# Altium schematic symbol library kmilo17pet-NSC_LDO.SchLib: 2675 symbols (part 65 of 65)
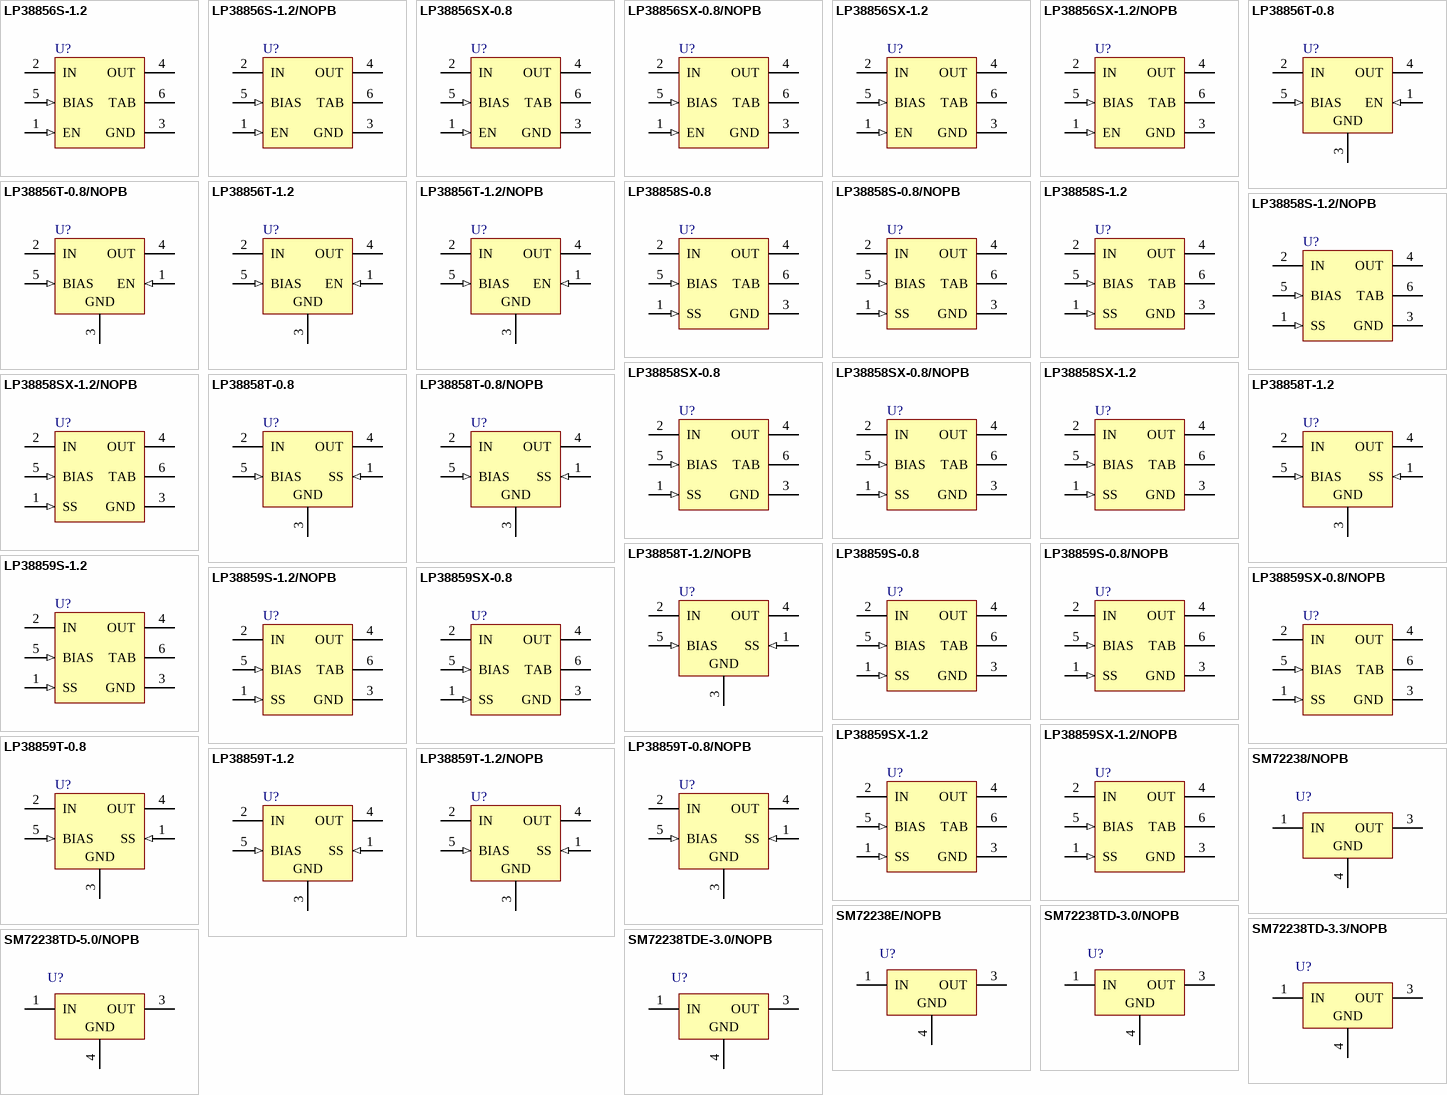
[diagram p131: symbols LP38856S-1.2 to SM72238TDE-3.0/NOPB]

## LP38859SX-0.8/NOPB
designator U?
3A Fast-Response High-Accuracy LDO Linear Regulator with Soft-Start, 5-pin TO-263, Pb-Free; PartNumber: LP38859SX-0.8/NOPB; Manufacturer: National Semiconductor; PackageTopMarking: NSUZXYTTE#*LP38859S*-0.8; PowerWise: Y; CompType: LDO IC; DatasheetVersion: Nov-2006; PackageVersion: revD, Apr-2005; PackageReference: TS5B; PackageDescription: TO-263, Molded, .400 x .390 x .180in, 5 Lead, .067in Pitch, Surface Mount; RoHS: Y; PinCount: 5; High-Reliability: Y; Code_JEDEC: MO-169-AB; ComponentLink1Description: Manufacturer URL; ComponentLink1URL: http://www.national.com/; ComponentLink2Description: LP38859 Datasheet; ComponentLink2URL: http://www.national.com/ds/LP/LP38859.pdf; ComponentLink3Description: LP38859 Web Page; ComponentLink3URL: http://www.national.com/pf/LP/LP38859.html; ComponentLink4Description: TS5B Package Page; ComponentLink4URL: http://www.national.com/packaging/folders/ts5b.html
footprint TS5B_N (D2-PAK, 6-Leads, Body 8.6x10.2mm, Pitch 1.7mm, Lead Span 14.1mm, IPC Medium Density)
footprint TS5B_L (D2-PAK, 6-Leads, Body 8.6x10.2mm, Pitch 1.7mm, Lead Span 14.1mm, IPC High Density)
footprint TS5B_M (D2-PAK, 6-Leads, Body 8.6x10.2mm, Pitch 1.7mm, Lead Span 14.1mm, IPC Low Density)
pins: 1 SS (in), 2 IN (power), 3 GND (power), 4 OUT (power), 5 BIAS (in), 6 TAB (power)

## LP38859SX-1.2
designator U?
3A Fast-Response High-Accuracy LDO Linear Regulator with Soft-Start, 5-pin TO-263; PartNumber: LP38859SX-1.2; Manufacturer: National Semiconductor; PackageTopMarking: NSUZXYTTE#*LP38859S*-1.2; PowerWise: Y; CompType: LDO IC; DatasheetVersion: Nov-2006; PackageVersion: revD, Apr-2005; PackageReference: TS5B; PackageDescription: TO-263, Molded, .400 x .390 x .180in, 5 Lead, .067in Pitch, Surface Mount; RoHS: N; PinCount: 5; High-Reliability: Y; Code_JEDEC: MO-169-AB; ComponentLink1Description: Manufacturer URL; ComponentLink1URL: http://www.national.com/; ComponentLink2Description: LP38859 Datasheet; ComponentLink2URL: http://www.national.com/ds/LP/LP38859.pdf; ComponentLink3Description: LP38859 Web Page; ComponentLink3URL: http://www.national.com/pf/LP/LP38859.html; ComponentLink4Description: TS5B Package Page; ComponentLink4URL: http://www.national.com/packaging/folders/ts5b.html
footprint TS5B_N (D2-PAK, 6-Leads, Body 8.6x10.2mm, Pitch 1.7mm, Lead Span 14.1mm, IPC Medium Density)
footprint TS5B_L (D2-PAK, 6-Leads, Body 8.6x10.2mm, Pitch 1.7mm, Lead Span 14.1mm, IPC High Density)
footprint TS5B_M (D2-PAK, 6-Leads, Body 8.6x10.2mm, Pitch 1.7mm, Lead Span 14.1mm, IPC Low Density)
pins: 1 SS (in), 2 IN (power), 3 GND (power), 4 OUT (power), 5 BIAS (in), 6 TAB (power)

## LP38859SX-1.2/NOPB
designator U?
3A Fast-Response High-Accuracy LDO Linear Regulator with Soft-Start, 5-pin TO-263, Pb-Free; PartNumber: LP38859SX-1.2/NOPB; Manufacturer: National Semiconductor; PackageTopMarking: NSUZXYTTE#*LP38859S*-1.2; PowerWise: Y; CompType: LDO IC; DatasheetVersion: Nov-2006; PackageVersion: revD, Apr-2005; PackageReference: TS5B; PackageDescription: TO-263, Molded, .400 x .390 x .180in, 5 Lead, .067in Pitch, Surface Mount; RoHS: Y; PinCount: 5; High-Reliability: Y; Code_JEDEC: MO-169-AB; ComponentLink1Description: Manufacturer URL; ComponentLink1URL: http://www.national.com/; ComponentLink2Description: LP38859 Datasheet; ComponentLink2URL: http://www.national.com/ds/LP/LP38859.pdf; ComponentLink3Description: LP38859 Web Page; ComponentLink3URL: http://www.national.com/pf/LP/LP38859.html; ComponentLink4Description: TS5B Package Page; ComponentLink4URL: http://www.national.com/packaging/folders/ts5b.html
footprint TS5B_N (D2-PAK, 6-Leads, Body 8.6x10.2mm, Pitch 1.7mm, Lead Span 14.1mm, IPC Medium Density)
footprint TS5B_L (D2-PAK, 6-Leads, Body 8.6x10.2mm, Pitch 1.7mm, Lead Span 14.1mm, IPC High Density)
footprint TS5B_M (D2-PAK, 6-Leads, Body 8.6x10.2mm, Pitch 1.7mm, Lead Span 14.1mm, IPC Low Density)
pins: 1 SS (in), 2 IN (power), 3 GND (power), 4 OUT (power), 5 BIAS (in), 6 TAB (power)

## LP38859T-0.8
designator U?
3A Fast-Response High-Accuracy LDO Linear Regulator with Soft-Start, 5-pin TO-220; PartNumber: LP38859T-0.8; Manufacturer: National Semiconductor; PackageTopMarking: NSUZXYTTE#*LP38859T*-0.8; PowerWise: Y; CompType: LDO IC; DatasheetVersion: Nov-2006; PackageVersion: revA, Oct-1989; PackageReference: T05D; PackageDescription: TO-220, Molded, Stagger Bend, 5 Lead; RoHS: N; PinCount: 5; High-Reliability: Y; ComponentLink1Description: Manufacturer URL; ComponentLink1URL: http://www.national.com/; ComponentLink2Description: LP38859 Datasheet; ComponentLink2URL: http://www.national.com/ds/LP/LP38859.pdf; ComponentLink3Description: LP38859 Web Page; ComponentLink3URL: http://www.national.com/pf/LP/LP38859.html; ComponentLink4Description: T05D Package Page; ComponentLink4URL: http://www.national.com/packaging/folders/t05d.html
footprint T05D (TO, Thru-Hole, Vertical, Heatsink Mounted; 5 Bent Staggered Leads; Body 10.3x8.6x4.6mm, Pitch 1.7 mm)
pins: 1 SS (in), 2 IN (power), 3 GND (power), 4 OUT (power), 5 BIAS (in)

## LP38859T-0.8/NOPB
designator U?
3A Fast-Response High-Accuracy LDO Linear Regulator with Soft-Start, 5-pin TO-220, Pb-Free; PartNumber: LP38859T-0.8/NOPB; Manufacturer: National Semiconductor; PackageTopMarking: NSUZXYTTE#*LP38859T*-0.8; PowerWise: Y; CompType: LDO IC; DatasheetVersion: Nov-2006; PackageVersion: revA, Oct-1989; PackageReference: T05D; PackageDescription: TO-220, Molded, Stagger Bend, 5 Lead; RoHS: Y; PinCount: 5; High-Reliability: Y; ComponentLink1Description: Manufacturer URL; ComponentLink1URL: http://www.national.com/; ComponentLink2Description: LP38859 Datasheet; ComponentLink2URL: http://www.national.com/ds/LP/LP38859.pdf; ComponentLink3Description: LP38859 Web Page; ComponentLink3URL: http://www.national.com/pf/LP/LP38859.html; ComponentLink4Description: T05D Package Page; ComponentLink4URL: http://www.national.com/packaging/folders/t05d.html
footprint T05D (TO, Thru-Hole, Vertical, Heatsink Mounted; 5 Bent Staggered Leads; Body 10.3x8.6x4.6mm, Pitch 1.7 mm)
pins: 1 SS (in), 2 IN (power), 3 GND (power), 4 OUT (power), 5 BIAS (in)

## LP38859T-1.2
designator U?
3A Fast-Response High-Accuracy LDO Linear Regulator with Soft-Start, 5-pin TO-220; PartNumber: LP38859T-1.2; Manufacturer: National Semiconductor; PackageTopMarking: NSUZXYTTE#*LP38859T*-1.2; PowerWise: Y; CompType: LDO IC; DatasheetVersion: Nov-2006; PackageVersion: revA, Oct-1989; PackageReference: T05D; PackageDescription: TO-220, Molded, Stagger Bend, 5 Lead; RoHS: N; PinCount: 5; High-Reliability: Y; ComponentLink1Description: Manufacturer URL; ComponentLink1URL: http://www.national.com/; ComponentLink2Description: LP38859 Datasheet; ComponentLink2URL: http://www.national.com/ds/LP/LP38859.pdf; ComponentLink3Description: LP38859 Web Page; ComponentLink3URL: http://www.national.com/pf/LP/LP38859.html; ComponentLink4Description: T05D Package Page; ComponentLink4URL: http://www.national.com/packaging/folders/t05d.html
footprint T05D (TO, Thru-Hole, Vertical, Heatsink Mounted; 5 Bent Staggered Leads; Body 10.3x8.6x4.6mm, Pitch 1.7 mm)
pins: 1 SS (in), 2 IN (power), 3 GND (power), 4 OUT (power), 5 BIAS (in)

## LP38859T-1.2/NOPB
designator U?
3A Fast-Response High-Accuracy LDO Linear Regulator with Soft-Start, 5-pin TO-220, Pb-Free; PartNumber: LP38859T-1.2/NOPB; Manufacturer: National Semiconductor; PackageTopMarking: NSUZXYTTE#*LP38859T*-1.2; PowerWise: Y; CompType: LDO IC; DatasheetVersion: Nov-2006; PackageVersion: revA, Oct-1989; PackageReference: T05D; PackageDescription: TO-220, Molded, Stagger Bend, 5 Lead; RoHS: Y; PinCount: 5; High-Reliability: Y; ComponentLink1Description: Manufacturer URL; ComponentLink1URL: http://www.national.com/; ComponentLink2Description: LP38859 Datasheet; ComponentLink2URL: http://www.national.com/ds/LP/LP38859.pdf; ComponentLink3Description: LP38859 Web Page; ComponentLink3URL: http://www.national.com/pf/LP/LP38859.html; ComponentLink4Description: T05D Package Page; ComponentLink4URL: http://www.national.com/packaging/folders/t05d.html
footprint T05D (TO, Thru-Hole, Vertical, Heatsink Mounted; 5 Bent Staggered Leads; Body 10.3x8.6x4.6mm, Pitch 1.7 mm)
pins: 1 SS (in), 2 IN (power), 3 GND (power), 4 OUT (power), 5 BIAS (in)

## SM72238/NOPB
designator U?
SolarMagic 5V Micropower Voltage Regulator, 3-pin TO-252, 2500 Reel, Pb-Free; PartNumber: SM72238/NOPB; Manufacturer: National Semiconductor; PackageTopMarking: NSUZXYTT*S72238; PowerWise: N; CompType: LDO IC; High-Reliability: Y; DatasheetVersion: May-2011; PackageVersion: revD, Feb-2009; PackageReference: TD03B; PackageDescription: TO252, Molded, Jedec, 6.8 x 6.10 x 2.30mm Body, 3 Lead, 2.28mm Pitch, Surface Mount; RoHS: Y; PinCount: 3; Code_JEDEC: TO-252-AA; ComponentLink1Description: Manufacturer URL; ComponentLink1URL: http://www.national.com/; ComponentLink2Description: SM72238 Datasheet; ComponentLink2URL: http://www.national.com/ds/SM/SM72238.pdf; ComponentLink3Description: SM72238 Web Page; ComponentLink3URL: http://www.national.com/pf/SM/SM72238.html; ComponentLink4Description: TD03B Package Page; ComponentLink4URL: http://www.national.com/packaging/folders/td03b.html
footprint TD03B_N (D-PAK, 4-Leads, Body 6.1x6.6mm, Pitch 2.29mm, Lead Span 9.7mm, IPC Medium Density)
footprint TD03B_L (D-PAK, 4-Leads, Body 6.1x6.6mm, Pitch 2.29mm, Lead Span 9.7mm, IPC High Density)
footprint TD03B_M (D-PAK, 4-Leads, Body 6.1x6.6mm, Pitch 2.29mm, Lead Span 9.7mm, IPC Low Density)
pins: 1 IN (power), 3 OUT (power), 4 GND (power)

## SM72238E/NOPB
designator U?
SolarMagic 5V Micropower Voltage Regulator, 3-pin TO-252, 250 Reel, Pb-Free; PartNumber: SM72238E/NOPB; Manufacturer: National Semiconductor; PackageTopMarking: NSUZXYTT*S72238; PowerWise: N; CompType: LDO IC; High-Reliability: Y; DatasheetVersion: May-2011; PackageVersion: revD, Feb-2009; PackageReference: TD03B; PackageDescription: TO252, Molded, Jedec, 6.8 x 6.10 x 2.30mm Body, 3 Lead, 2.28mm Pitch, Surface Mount; RoHS: Y; PinCount: 3; Code_JEDEC: TO-252-AA; ComponentLink1Description: Manufacturer URL; ComponentLink1URL: http://www.national.com/; ComponentLink2Description: SM72238 Datasheet; ComponentLink2URL: http://www.national.com/ds/SM/SM72238.pdf; ComponentLink3Description: SM72238 Web Page; ComponentLink3URL: http://www.national.com/pf/SM/SM72238.html; ComponentLink4Description: TD03B Package Page; ComponentLink4URL: http://www.national.com/packaging/folders/td03b.html
footprint TD03B_N (D-PAK, 4-Leads, Body 6.1x6.6mm, Pitch 2.29mm, Lead Span 9.7mm, IPC Medium Density)
footprint TD03B_L (D-PAK, 4-Leads, Body 6.1x6.6mm, Pitch 2.29mm, Lead Span 9.7mm, IPC High Density)
footprint TD03B_M (D-PAK, 4-Leads, Body 6.1x6.6mm, Pitch 2.29mm, Lead Span 9.7mm, IPC Low Density)
pins: 1 IN (power), 3 OUT (power), 4 GND (power)

## SM72238TD-3.0/NOPB
designator U?
SolarMagic Micropower Voltage Regulators, 3-pin TO-252; PartNumber: SM72238TD-3.0/NOPB; Manufacturer: National Semiconductor; PackageTopMarking: NSUZXYTT*S72238*-3.0; PowerWise: N; CompType: LDO IC; High-Reliability: Y; DatasheetVersion: May-2011; PackageVersion: revD, Feb-2009; PackageReference: TD03B; PackageDescription: TO252, Molded, Jedec, 6.8 x 6.10 x 2.30mm Body, 3 Lead, 2.28mm Pitch, Surface Mount; RoHS: Y; PinCount: 3; Code_JEDEC: TO-252-AA; ComponentLink1Description: Manufacturer URL; ComponentLink1URL: http://www.national.com/; ComponentLink2Description: SM72238 Datasheet; ComponentLink2URL: http://www.national.com/ds/SM/SM72238.pdf; ComponentLink3Description: SM72238 Web Page; ComponentLink3URL: http://www.national.com/pf/SM/SM72238.html; ComponentLink4Description: TD03B Package Page; ComponentLink4URL: http://www.national.com/packaging/folders/td03b.html
footprint TD03B_N (D-PAK, 4-Leads, Body 6.1x6.6mm, Pitch 2.29mm, Lead Span 9.7mm, IPC Medium Density)
footprint TD03B_L (D-PAK, 4-Leads, Body 6.1x6.6mm, Pitch 2.29mm, Lead Span 9.7mm, IPC High Density)
footprint TD03B_M (D-PAK, 4-Leads, Body 6.1x6.6mm, Pitch 2.29mm, Lead Span 9.7mm, IPC Low Density)
pins: 1 IN (power), 3 OUT (power), 4 GND (power)

## SM72238TD-3.3/NOPB
designator U?
SolarMagic Micropower Voltage Regulators, 3-pin TO-252; PartNumber: SM72238TD-3.3/NOPB; Manufacturer: National Semiconductor; PackageTopMarking: NSUZXYTT*S72238*-3.3; PowerWise: N; CompType: LDO IC; High-Reliability: Y; DatasheetVersion: May-2011; PackageVersion: revD, Feb-2009; PackageReference: TD03B; PackageDescription: TO252, Molded, Jedec, 6.8 x 6.10 x 2.30mm Body, 3 Lead, 2.28mm Pitch, Surface Mount; RoHS: Y; PinCount: 3; Code_JEDEC: TO-252-AA; ComponentLink1Description: Manufacturer URL; ComponentLink1URL: http://www.national.com/; ComponentLink2Description: SM72238 Datasheet; ComponentLink2URL: http://www.national.com/ds/SM/SM72238.pdf; ComponentLink3Description: SM72238 Web Page; ComponentLink3URL: http://www.national.com/pf/SM/SM72238.html; ComponentLink4Description: TD03B Package Page; ComponentLink4URL: http://www.national.com/packaging/folders/td03b.html
footprint TD03B_N (D-PAK, 4-Leads, Body 6.1x6.6mm, Pitch 2.29mm, Lead Span 9.7mm, IPC Medium Density)
footprint TD03B_L (D-PAK, 4-Leads, Body 6.1x6.6mm, Pitch 2.29mm, Lead Span 9.7mm, IPC High Density)
footprint TD03B_M (D-PAK, 4-Leads, Body 6.1x6.6mm, Pitch 2.29mm, Lead Span 9.7mm, IPC Low Density)
pins: 1 IN (power), 3 OUT (power), 4 GND (power)

## SM72238TD-5.0/NOPB
designator U?
SolarMagic Micropower Voltage Regulators, 3-pin TO-252, 75 Rail; PartNumber: SM72238TD-5.0/NOPB; Manufacturer: National Semiconductor; PackageTopMarking: NSUZXYTT*S72238; PowerWise: N; CompType: LDO IC; High-Reliability: Y; DatasheetVersion: May-2011; PackageVersion: revD, Feb-2009; PackageReference: TD03B; PackageDescription: TO252, Molded, Jedec, 6.8 x 6.10 x 2.30mm Body, 3 Lead, 2.28mm Pitch, Surface Mount; RoHS: Y; PinCount: 3; Code_JEDEC: TO-252-AA; ComponentLink1Description: Manufacturer URL; ComponentLink1URL: http://www.national.com/; ComponentLink2Description: SM72238 Datasheet; ComponentLink2URL: http://www.national.com/ds/SM/SM72238.pdf; ComponentLink3Description: SM72238 Web Page; ComponentLink3URL: http://www.national.com/pf/SM/SM72238.html; ComponentLink4Description: TD03B Package Page; ComponentLink4URL: http://www.national.com/packaging/folders/td03b.html
footprint TD03B_N (D-PAK, 4-Leads, Body 6.1x6.6mm, Pitch 2.29mm, Lead Span 9.7mm, IPC Medium Density)
footprint TD03B_L (D-PAK, 4-Leads, Body 6.1x6.6mm, Pitch 2.29mm, Lead Span 9.7mm, IPC High Density)
footprint TD03B_M (D-PAK, 4-Leads, Body 6.1x6.6mm, Pitch 2.29mm, Lead Span 9.7mm, IPC Low Density)
pins: 1 IN (power), 3 OUT (power), 4 GND (power)

## SM72238TDE-3.0/NOPB
designator U?
SolarMagic Micropower Voltage Regulators, 3-pin TO-252; PartNumber: SM72238TDE-3.0/NOPB; Manufacturer: National Semiconductor; PackageTopMarking: NSUZXYTT*S72238*-3.0; PowerWise: N; CompType: LDO IC; High-Reliability: Y; DatasheetVersion: May-2011; PackageVersion: revD, Feb-2009; PackageReference: TD03B; PackageDescription: TO252, Molded, Jedec, 6.8 x 6.10 x 2.30mm Body, 3 Lead, 2.28mm Pitch, Surface Mount; RoHS: Y; PinCount: 3; Code_JEDEC: TO-252-AA; ComponentLink1Description: Manufacturer URL; ComponentLink1URL: http://www.national.com/; ComponentLink2Description: SM72238 Datasheet; ComponentLink2URL: http://www.national.com/ds/SM/SM72238.pdf; ComponentLink3Description: SM72238 Web Page; ComponentLink3URL: http://www.national.com/pf/SM/SM72238.html; ComponentLink4Description: TD03B Package Page; ComponentLink4URL: http://www.national.com/packaging/folders/td03b.html
footprint TD03B_N (D-PAK, 4-Leads, Body 6.1x6.6mm, Pitch 2.29mm, Lead Span 9.7mm, IPC Medium Density)
footprint TD03B_L (D-PAK, 4-Leads, Body 6.1x6.6mm, Pitch 2.29mm, Lead Span 9.7mm, IPC High Density)
footprint TD03B_M (D-PAK, 4-Leads, Body 6.1x6.6mm, Pitch 2.29mm, Lead Span 9.7mm, IPC Low Density)
pins: 1 IN (power), 3 OUT (power), 4 GND (power)

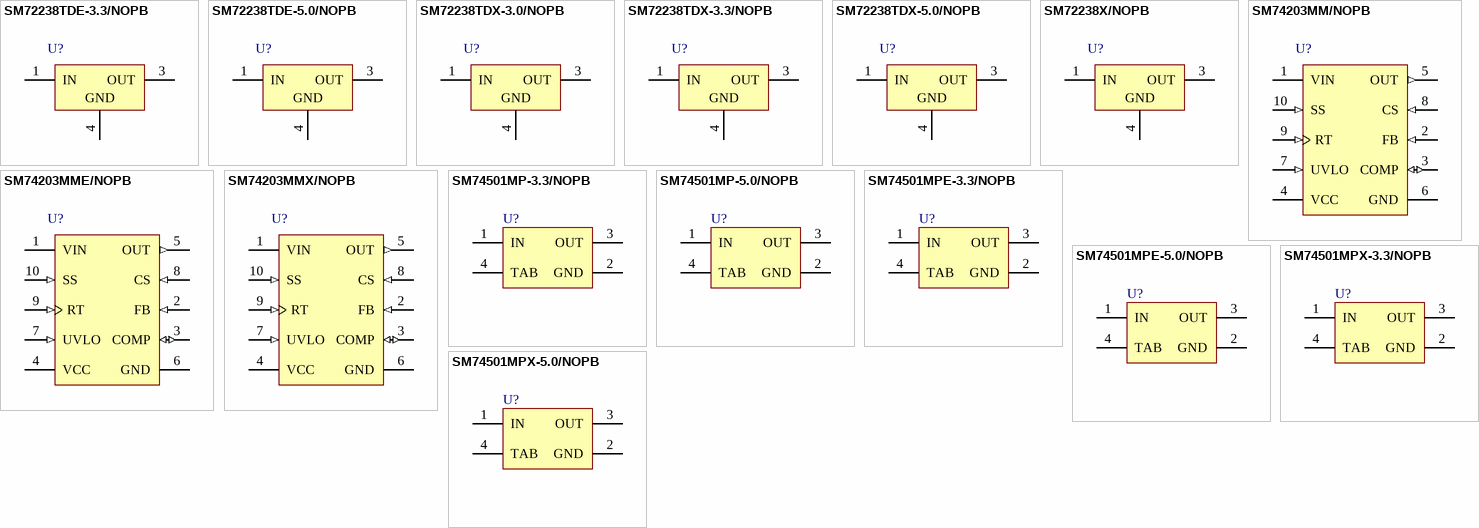
[diagram p67: symbols SM72238TDE-3.3/NOPB to SM74501MPX-5.0/NOPB]

## SM72238TDE-3.3/NOPB
designator U?
SolarMagic Micropower Voltage Regulators, 3-pin TO-252; PartNumber: SM72238TDE-3.3/NOPB; Manufacturer: National Semiconductor; PackageTopMarking: NSUZXYTT*S72238*-3.3; PowerWise: N; CompType: LDO IC; High-Reliability: Y; DatasheetVersion: May-2011; PackageVersion: revD, Feb-2009; PackageReference: TD03B; PackageDescription: TO252, Molded, Jedec, 6.8 x 6.10 x 2.30mm Body, 3 Lead, 2.28mm Pitch, Surface Mount; RoHS: Y; PinCount: 3; Code_JEDEC: TO-252-AA; ComponentLink1Description: Manufacturer URL; ComponentLink1URL: http://www.national.com/; ComponentLink2Description: SM72238 Datasheet; ComponentLink2URL: http://www.national.com/ds/SM/SM72238.pdf; ComponentLink3Description: SM72238 Web Page; ComponentLink3URL: http://www.national.com/pf/SM/SM72238.html; ComponentLink4Description: TD03B Package Page; ComponentLink4URL: http://www.national.com/packaging/folders/td03b.html
footprint TD03B_N (D-PAK, 4-Leads, Body 6.1x6.6mm, Pitch 2.29mm, Lead Span 9.7mm, IPC Medium Density)
footprint TD03B_L (D-PAK, 4-Leads, Body 6.1x6.6mm, Pitch 2.29mm, Lead Span 9.7mm, IPC High Density)
footprint TD03B_M (D-PAK, 4-Leads, Body 6.1x6.6mm, Pitch 2.29mm, Lead Span 9.7mm, IPC Low Density)
pins: 1 IN (power), 3 OUT (power), 4 GND (power)

## SM72238TDE-5.0/NOPB
designator U?
SolarMagic Micropower Voltage Regulators, 3-pin TO-252, 250 Reel; PartNumber: SM72238TDE-5.0/NOPB; Manufacturer: National Semiconductor; PackageTopMarking: NSUZXYTT*S72238; PowerWise: N; CompType: LDO IC; High-Reliability: Y; DatasheetVersion: May-2011; PackageVersion: revD, Feb-2009; PackageReference: TD03B; PackageDescription: TO252, Molded, Jedec, 6.8 x 6.10 x 2.30mm Body, 3 Lead, 2.28mm Pitch, Surface Mount; RoHS: Y; PinCount: 3; Code_JEDEC: TO-252-AA; ComponentLink1Description: Manufacturer URL; ComponentLink1URL: http://www.national.com/; ComponentLink2Description: SM72238 Datasheet; ComponentLink2URL: http://www.national.com/ds/SM/SM72238.pdf; ComponentLink3Description: SM72238 Web Page; ComponentLink3URL: http://www.national.com/pf/SM/SM72238.html; ComponentLink4Description: TD03B Package Page; ComponentLink4URL: http://www.national.com/packaging/folders/td03b.html
footprint TD03B_N (D-PAK, 4-Leads, Body 6.1x6.6mm, Pitch 2.29mm, Lead Span 9.7mm, IPC Medium Density)
footprint TD03B_L (D-PAK, 4-Leads, Body 6.1x6.6mm, Pitch 2.29mm, Lead Span 9.7mm, IPC High Density)
footprint TD03B_M (D-PAK, 4-Leads, Body 6.1x6.6mm, Pitch 2.29mm, Lead Span 9.7mm, IPC Low Density)
pins: 1 IN (power), 3 OUT (power), 4 GND (power)

## SM72238TDX-3.0/NOPB
designator U?
SolarMagic Micropower Voltage Regulators, 3-pin TO-252; PartNumber: SM72238TDX-3.0/NOPB; Manufacturer: National Semiconductor; PackageTopMarking: NSUZXYTT*S72238*-3.0; PowerWise: N; CompType: LDO IC; High-Reliability: Y; DatasheetVersion: May-2011; PackageVersion: revD, Feb-2009; PackageReference: TD03B; PackageDescription: TO252, Molded, Jedec, 6.8 x 6.10 x 2.30mm Body, 3 Lead, 2.28mm Pitch, Surface Mount; RoHS: Y; PinCount: 3; Code_JEDEC: TO-252-AA; ComponentLink1Description: Manufacturer URL; ComponentLink1URL: http://www.national.com/; ComponentLink2Description: SM72238 Datasheet; ComponentLink2URL: http://www.national.com/ds/SM/SM72238.pdf; ComponentLink3Description: SM72238 Web Page; ComponentLink3URL: http://www.national.com/pf/SM/SM72238.html; ComponentLink4Description: TD03B Package Page; ComponentLink4URL: http://www.national.com/packaging/folders/td03b.html
footprint TD03B_N (D-PAK, 4-Leads, Body 6.1x6.6mm, Pitch 2.29mm, Lead Span 9.7mm, IPC Medium Density)
footprint TD03B_L (D-PAK, 4-Leads, Body 6.1x6.6mm, Pitch 2.29mm, Lead Span 9.7mm, IPC High Density)
footprint TD03B_M (D-PAK, 4-Leads, Body 6.1x6.6mm, Pitch 2.29mm, Lead Span 9.7mm, IPC Low Density)
pins: 1 IN (power), 3 OUT (power), 4 GND (power)

## SM72238TDX-3.3/NOPB
designator U?
SolarMagic Micropower Voltage Regulators, 3-pin TO-252; PartNumber: SM72238TDX-3.3/NOPB; Manufacturer: National Semiconductor; PackageTopMarking: NSUZXYTT*S72238*-3.3; PowerWise: N; CompType: LDO IC; High-Reliability: Y; DatasheetVersion: May-2011; PackageVersion: revD, Feb-2009; PackageReference: TD03B; PackageDescription: TO252, Molded, Jedec, 6.8 x 6.10 x 2.30mm Body, 3 Lead, 2.28mm Pitch, Surface Mount; RoHS: Y; PinCount: 3; Code_JEDEC: TO-252-AA; ComponentLink1Description: Manufacturer URL; ComponentLink1URL: http://www.national.com/; ComponentLink2Description: SM72238 Datasheet; ComponentLink2URL: http://www.national.com/ds/SM/SM72238.pdf; ComponentLink3Description: SM72238 Web Page; ComponentLink3URL: http://www.national.com/pf/SM/SM72238.html; ComponentLink4Description: TD03B Package Page; ComponentLink4URL: http://www.national.com/packaging/folders/td03b.html
footprint TD03B_N (D-PAK, 4-Leads, Body 6.1x6.6mm, Pitch 2.29mm, Lead Span 9.7mm, IPC Medium Density)
footprint TD03B_L (D-PAK, 4-Leads, Body 6.1x6.6mm, Pitch 2.29mm, Lead Span 9.7mm, IPC High Density)
footprint TD03B_M (D-PAK, 4-Leads, Body 6.1x6.6mm, Pitch 2.29mm, Lead Span 9.7mm, IPC Low Density)
pins: 1 IN (power), 3 OUT (power), 4 GND (power)

## SM72238TDX-5.0/NOPB
designator U?
SolarMagic Micropower Voltage Regulators, 3-pin TO-252, 2500 Reel; PartNumber: SM72238TDX-5.0/NOPB; Manufacturer: National Semiconductor; PackageTopMarking: NSUZXYTT*S72238; PowerWise: N; CompType: LDO IC; High-Reliability: Y; DatasheetVersion: May-2011; PackageVersion: revD, Feb-2009; PackageReference: TD03B; PackageDescription: TO252, Molded, Jedec, 6.8 x 6.10 x 2.30mm Body, 3 Lead, 2.28mm Pitch, Surface Mount; RoHS: Y; PinCount: 3; Code_JEDEC: TO-252-AA; ComponentLink1Description: Manufacturer URL; ComponentLink1URL: http://www.national.com/; ComponentLink2Description: SM72238 Datasheet; ComponentLink2URL: http://www.national.com/ds/SM/SM72238.pdf; ComponentLink3Description: SM72238 Web Page; ComponentLink3URL: http://www.national.com/pf/SM/SM72238.html; ComponentLink4Description: TD03B Package Page; ComponentLink4URL: http://www.national.com/packaging/folders/td03b.html
footprint TD03B_N (D-PAK, 4-Leads, Body 6.1x6.6mm, Pitch 2.29mm, Lead Span 9.7mm, IPC Medium Density)
footprint TD03B_L (D-PAK, 4-Leads, Body 6.1x6.6mm, Pitch 2.29mm, Lead Span 9.7mm, IPC High Density)
footprint TD03B_M (D-PAK, 4-Leads, Body 6.1x6.6mm, Pitch 2.29mm, Lead Span 9.7mm, IPC Low Density)
pins: 1 IN (power), 3 OUT (power), 4 GND (power)

## SM72238X/NOPB
designator U?
SolarMagic 5V Micropower Voltage Regulator, 3-pin TO-252, 2500 Reel, Pb-Free; PartNumber: SM72238X/NOPB; Manufacturer: National Semiconductor; PackageTopMarking: NSUZXYTT*S72238; PowerWise: N; CompType: LDO IC; High-Reliability: Y; DatasheetVersion: May-2011; PackageVersion: revD, Feb-2009; PackageReference: TD03B; PackageDescription: TO252, Molded, Jedec, 6.8 x 6.10 x 2.30mm Body, 3 Lead, 2.28mm Pitch, Surface Mount; RoHS: Y; PinCount: 3; Code_JEDEC: TO-252-AA; ComponentLink1Description: Manufacturer URL; ComponentLink1URL: http://www.national.com/; ComponentLink2Description: SM72238 Datasheet; ComponentLink2URL: http://www.national.com/ds/SM/SM72238.pdf; ComponentLink3Description: SM72238 Web Page; ComponentLink3URL: http://www.national.com/pf/SM/SM72238.html; ComponentLink4Description: TD03B Package Page; ComponentLink4URL: http://www.national.com/packaging/folders/td03b.html
footprint TD03B_N (D-PAK, 4-Leads, Body 6.1x6.6mm, Pitch 2.29mm, Lead Span 9.7mm, IPC Medium Density)
footprint TD03B_L (D-PAK, 4-Leads, Body 6.1x6.6mm, Pitch 2.29mm, Lead Span 9.7mm, IPC High Density)
footprint TD03B_M (D-PAK, 4-Leads, Body 6.1x6.6mm, Pitch 2.29mm, Lead Span 9.7mm, IPC Low Density)
pins: 1 IN (power), 3 OUT (power), 4 GND (power)

## SM74203MM/NOPB
designator U?
60V Low Side  Controller for Boost and SEPIC, 10-pin Mini SOIC; PartNumber: SM74203MM/NOPB; Manufacturer: National Semiconductor; PackageTopMarking: ZXTT*S203; PowerWise: N; CompType: LDO IC; High-Reliability: Y; DatasheetVersion: Aug-2011; PackageVersion: revB, Jul-2003; PackageReference: MUB10A; PackageDescription: Mini-SO, Molded, .118 x .118 x .034in Body, 10 Lead, .0197in Pitch; RoHS: Y; PinCount: 10; Code_JEDEC: MO-187-BA; ComponentLink1Description: Manufacturer URL; ComponentLink1URL: http://www.national.com/; ComponentLink2Description: SM74203 Datasheet; ComponentLink2URL: http://www.national.com/ds/SM/SM74203.pdf; ComponentLink3Description: SM74203 Web Page; ComponentLink3URL: http://www.national.com/pf/SM/SM74203.html; ComponentLink4Description: MUB10A Package Page; ComponentLink4URL: http://www.national.com/packaging/folders/mub10a.html
footprint MUB10A_N (TSSOP, 10-Leads, Body 3x3mm, Pitch 0.5mm, IPC Medium Density)
footprint MUB10A_L (TSSOP, 10-Leads, Body 3x3mm, Pitch 0.5mm, IPC High Density)
footprint MUB10A_M (TSSOP, 10-Leads, Body 3x3mm, Pitch 0.5mm, IPC Low Density)
pins: 1 VIN (power), 2 FB (in), 3 COMP (io), 4 VCC (power), 5 OUT (out), 6 GND (power), 7 UVLO (in), 8 CS (in), 9 RT (in), 10 SS (in)

## SM74203MME/NOPB
designator U?
60V Low Side  Controller for Boost and SEPIC, 10-pin Mini SOIC; PartNumber: SM74203MME/NOPB; Manufacturer: National Semiconductor; PackageTopMarking: ZXTT*S203; PowerWise: N; CompType: LDO IC; High-Reliability: Y; DatasheetVersion: Aug-2011; PackageVersion: revB, Jul-2003; PackageReference: MUB10A; PackageDescription: Mini-SO, Molded, .118 x .118 x .034in Body, 10 Lead, .0197in Pitch; RoHS: Y; PinCount: 10; Code_JEDEC: MO-187-BA; ComponentLink1Description: Manufacturer URL; ComponentLink1URL: http://www.national.com/; ComponentLink2Description: SM74203 Datasheet; ComponentLink2URL: http://www.national.com/ds/SM/SM74203.pdf; ComponentLink3Description: SM74203 Web Page; ComponentLink3URL: http://www.national.com/pf/SM/SM74203.html; ComponentLink4Description: MUB10A Package Page; ComponentLink4URL: http://www.national.com/packaging/folders/mub10a.html
footprint MUB10A_N (TSSOP, 10-Leads, Body 3x3mm, Pitch 0.5mm, IPC Medium Density)
footprint MUB10A_L (TSSOP, 10-Leads, Body 3x3mm, Pitch 0.5mm, IPC High Density)
footprint MUB10A_M (TSSOP, 10-Leads, Body 3x3mm, Pitch 0.5mm, IPC Low Density)
pins: 1 VIN (power), 2 FB (in), 3 COMP (io), 4 VCC (power), 5 OUT (out), 6 GND (power), 7 UVLO (in), 8 CS (in), 9 RT (in), 10 SS (in)

## SM74203MMX/NOPB
designator U?
60V Low Side  Controller for Boost and SEPIC, 10-pin Mini SOIC; PartNumber: SM74203MMX/NOPB; Manufacturer: National Semiconductor; PackageTopMarking: ZXTT*S203; PowerWise: N; CompType: LDO IC; High-Reliability: Y; DatasheetVersion: Aug-2011; PackageVersion: revB, Jul-2003; PackageReference: MUB10A; PackageDescription: Mini-SO, Molded, .118 x .118 x .034in Body, 10 Lead, .0197in Pitch; RoHS: Y; PinCount: 10; Code_JEDEC: MO-187-BA; ComponentLink1Description: Manufacturer URL; ComponentLink1URL: http://www.national.com/; ComponentLink2Description: SM74203 Datasheet; ComponentLink2URL: http://www.national.com/ds/SM/SM74203.pdf; ComponentLink3Description: SM74203 Web Page; ComponentLink3URL: http://www.national.com/pf/SM/SM74203.html; ComponentLink4Description: MUB10A Package Page; ComponentLink4URL: http://www.national.com/packaging/folders/mub10a.html
footprint MUB10A_N (TSSOP, 10-Leads, Body 3x3mm, Pitch 0.5mm, IPC Medium Density)
footprint MUB10A_L (TSSOP, 10-Leads, Body 3x3mm, Pitch 0.5mm, IPC High Density)
footprint MUB10A_M (TSSOP, 10-Leads, Body 3x3mm, Pitch 0.5mm, IPC Low Density)
pins: 1 VIN (power), 2 FB (in), 3 COMP (io), 4 VCC (power), 5 OUT (out), 6 GND (power), 7 UVLO (in), 8 CS (in), 9 RT (in), 10 SS (in)

## SM74501MP-3.3/NOPB
designator U?
Ultra-Low Quiescent Current LDO Voltage Regulator, 4-pin SOT-223; PartNumber: SM74501MP-3.3/NOPB; Manufacturer: National Semiconductor; PackageTopMarking: XYTT*LLSB; PowerWise: N; CompType: LDO IC; High-Reliability: Y; DatasheetVersion: Jul-2011; PackageVersion: revB, Apr-2003; PackageReference: MP04A; PackageDescription: Molded SOT-223, 6.50 x 3.56 x 1.6mm Body, 4 Lead, 2.3mm Pitch; RoHS: Y; PinCount: 4; Code_JEDEC: TO-261-AA; Code_IPC: SOT223-4; ComponentLink1Description: Manufacturer URL; ComponentLink1URL: http://www.national.com/; ComponentLink2Description: SM74501 Datasheet; ComponentLink2URL: http://www.national.com/ds/SM/SM74501.pdf; ComponentLink3Description: SM74501 Web Page; ComponentLink3URL: http://www.national.com/pf/SM/SM74501.html; ComponentLink4Description: MP04A Package Page; ComponentLink4URL: http://www.national.com/packaging/folders/mp04a.html
footprint MP04A_N (SOT223, 4-Leads, Body 6.5x3.5mm, Pitch 2.3mm, Lead Span 7mm, IPC Medium Density)
footprint MP04A_L (SOT223, 4-Leads, Body 6.5x3.5mm, Pitch 2.3mm, Lead Span 7mm, IPC High Density)
footprint MP04A_M (SOT223, 4-Leads, Body 6.5x3.5mm, Pitch 2.3mm, Lead Span 7mm, IPC Low Density)
pins: 1 IN (power), 2 GND (power), 3 OUT (power), 4 TAB (power)

## SM74501MP-5.0/NOPB
designator U?
Ultra-Low Quiescent Current LDO Voltage Regulator, 4-pin SOT-223; PartNumber: SM74501MP-5.0/NOPB; Manufacturer: National Semiconductor; PackageTopMarking: XYTT*LLNB; PowerWise: N; CompType: LDO IC; High-Reliability: Y; DatasheetVersion: Jul-2011; PackageVersion: revB, Apr-2003; PackageReference: MP04A; PackageDescription: Molded SOT-223, 6.50 x 3.56 x 1.6mm Body, 4 Lead, 2.3mm Pitch; RoHS: Y; PinCount: 4; Code_JEDEC: TO-261-AA; Code_IPC: SOT223-4; ComponentLink1Description: Manufacturer URL; ComponentLink1URL: http://www.national.com/; ComponentLink2Description: SM74501 Datasheet; ComponentLink2URL: http://www.national.com/ds/SM/SM74501.pdf; ComponentLink3Description: SM74501 Web Page; ComponentLink3URL: http://www.national.com/pf/SM/SM74501.html; ComponentLink4Description: MP04A Package Page; ComponentLink4URL: http://www.national.com/packaging/folders/mp04a.html
footprint MP04A_N (SOT223, 4-Leads, Body 6.5x3.5mm, Pitch 2.3mm, Lead Span 7mm, IPC Medium Density)
footprint MP04A_L (SOT223, 4-Leads, Body 6.5x3.5mm, Pitch 2.3mm, Lead Span 7mm, IPC High Density)
footprint MP04A_M (SOT223, 4-Leads, Body 6.5x3.5mm, Pitch 2.3mm, Lead Span 7mm, IPC Low Density)
pins: 1 IN (power), 2 GND (power), 3 OUT (power), 4 TAB (power)

## SM74501MPE-3.3/NOPB
designator U?
Ultra-Low Quiescent Current LDO Voltage Regulator, 4-pin SOT-223; PartNumber: SM74501MPE-3.3/NOPB; Manufacturer: National Semiconductor; PackageTopMarking: XYTT*LLSB; PowerWise: N; CompType: LDO IC; High-Reliability: Y; DatasheetVersion: Jul-2011; PackageVersion: revB, Apr-2003; PackageReference: MP04A; PackageDescription: Molded SOT-223, 6.50 x 3.56 x 1.6mm Body, 4 Lead, 2.3mm Pitch; RoHS: Y; PinCount: 4; Code_JEDEC: TO-261-AA; Code_IPC: SOT223-4; ComponentLink1Description: Manufacturer URL; ComponentLink1URL: http://www.national.com/; ComponentLink2Description: SM74501 Datasheet; ComponentLink2URL: http://www.national.com/ds/SM/SM74501.pdf; ComponentLink3Description: SM74501 Web Page; ComponentLink3URL: http://www.national.com/pf/SM/SM74501.html; ComponentLink4Description: MP04A Package Page; ComponentLink4URL: http://www.national.com/packaging/folders/mp04a.html
footprint MP04A_N (SOT223, 4-Leads, Body 6.5x3.5mm, Pitch 2.3mm, Lead Span 7mm, IPC Medium Density)
footprint MP04A_L (SOT223, 4-Leads, Body 6.5x3.5mm, Pitch 2.3mm, Lead Span 7mm, IPC High Density)
footprint MP04A_M (SOT223, 4-Leads, Body 6.5x3.5mm, Pitch 2.3mm, Lead Span 7mm, IPC Low Density)
pins: 1 IN (power), 2 GND (power), 3 OUT (power), 4 TAB (power)

## SM74501MPE-5.0/NOPB
designator U?
Ultra-Low Quiescent Current LDO Voltage Regulator, 4-pin SOT-223; PartNumber: SM74501MPE-5.0/NOPB; Manufacturer: National Semiconductor; PackageTopMarking: XYTT*LLNB; PowerWise: N; CompType: LDO IC; High-Reliability: Y; DatasheetVersion: Jul-2011; PackageVersion: revB, Apr-2003; PackageReference: MP04A; PackageDescription: Molded SOT-223, 6.50 x 3.56 x 1.6mm Body, 4 Lead, 2.3mm Pitch; RoHS: Y; PinCount: 4; Code_JEDEC: TO-261-AA; Code_IPC: SOT223-4; ComponentLink1Description: Manufacturer URL; ComponentLink1URL: http://www.national.com/; ComponentLink2Description: SM74501 Datasheet; ComponentLink2URL: http://www.national.com/ds/SM/SM74501.pdf; ComponentLink3Description: SM74501 Web Page; ComponentLink3URL: http://www.national.com/pf/SM/SM74501.html; ComponentLink4Description: MP04A Package Page; ComponentLink4URL: http://www.national.com/packaging/folders/mp04a.html
footprint MP04A_N (SOT223, 4-Leads, Body 6.5x3.5mm, Pitch 2.3mm, Lead Span 7mm, IPC Medium Density)
footprint MP04A_L (SOT223, 4-Leads, Body 6.5x3.5mm, Pitch 2.3mm, Lead Span 7mm, IPC High Density)
footprint MP04A_M (SOT223, 4-Leads, Body 6.5x3.5mm, Pitch 2.3mm, Lead Span 7mm, IPC Low Density)
pins: 1 IN (power), 2 GND (power), 3 OUT (power), 4 TAB (power)

## SM74501MPX-3.3/NOPB
designator U?
Ultra-Low Quiescent Current LDO Voltage Regulator, 4-pin SOT-223; PartNumber: SM74501MPX-3.3/NOPB; Manufacturer: National Semiconductor; PackageTopMarking: XYTT*LLSB; PowerWise: N; CompType: LDO IC; High-Reliability: Y; DatasheetVersion: Jul-2011; PackageVersion: revB, Apr-2003; PackageReference: MP04A; PackageDescription: Molded SOT-223, 6.50 x 3.56 x 1.6mm Body, 4 Lead, 2.3mm Pitch; RoHS: Y; PinCount: 4; Code_JEDEC: TO-261-AA; Code_IPC: SOT223-4; ComponentLink1Description: Manufacturer URL; ComponentLink1URL: http://www.national.com/; ComponentLink2Description: SM74501 Datasheet; ComponentLink2URL: http://www.national.com/ds/SM/SM74501.pdf; ComponentLink3Description: SM74501 Web Page; ComponentLink3URL: http://www.national.com/pf/SM/SM74501.html; ComponentLink4Description: MP04A Package Page; ComponentLink4URL: http://www.national.com/packaging/folders/mp04a.html
footprint MP04A_N (SOT223, 4-Leads, Body 6.5x3.5mm, Pitch 2.3mm, Lead Span 7mm, IPC Medium Density)
footprint MP04A_L (SOT223, 4-Leads, Body 6.5x3.5mm, Pitch 2.3mm, Lead Span 7mm, IPC High Density)
footprint MP04A_M (SOT223, 4-Leads, Body 6.5x3.5mm, Pitch 2.3mm, Lead Span 7mm, IPC Low Density)
pins: 1 IN (power), 2 GND (power), 3 OUT (power), 4 TAB (power)

## SM74501MPX-5.0/NOPB
designator U?
Ultra-Low Quiescent Current LDO Voltage Regulator, 4-pin SOT-223; PartNumber: SM74501MPX-5.0/NOPB; Manufacturer: National Semiconductor; PackageTopMarking: XYTT*LLNB; PowerWise: N; CompType: LDO IC; High-Reliability: Y; DatasheetVersion: Jul-2011; PackageVersion: revB, Apr-2003; PackageReference: MP04A; PackageDescription: Molded SOT-223, 6.50 x 3.56 x 1.6mm Body, 4 Lead, 2.3mm Pitch; RoHS: Y; PinCount: 4; Code_JEDEC: TO-261-AA; Code_IPC: SOT223-4; ComponentLink1Description: Manufacturer URL; ComponentLink1URL: http://www.national.com/; ComponentLink2Description: SM74501 Datasheet; ComponentLink2URL: http://www.national.com/ds/SM/SM74501.pdf; ComponentLink3Description: SM74501 Web Page; ComponentLink3URL: http://www.national.com/pf/SM/SM74501.html; ComponentLink4Description: MP04A Package Page; ComponentLink4URL: http://www.national.com/packaging/folders/mp04a.html
footprint MP04A_N (SOT223, 4-Leads, Body 6.5x3.5mm, Pitch 2.3mm, Lead Span 7mm, IPC Medium Density)
footprint MP04A_L (SOT223, 4-Leads, Body 6.5x3.5mm, Pitch 2.3mm, Lead Span 7mm, IPC High Density)
footprint MP04A_M (SOT223, 4-Leads, Body 6.5x3.5mm, Pitch 2.3mm, Lead Span 7mm, IPC Low Density)
pins: 1 IN (power), 2 GND (power), 3 OUT (power), 4 TAB (power)